# Altium footprint library Discrete Semiconductors Pad Lib.PcbLib: 56 footprints (part 2 of 4)
Each footprint in its own frame and in the unit in brackets; x right, y up, seen from the top. Pads: shape width x height; smd on the part's side, far side on the other; paste and mask are expansions set on the pad; w line width, h text height; cw(c..) or ccw(c..) is an arc to the next point about the centre after c.
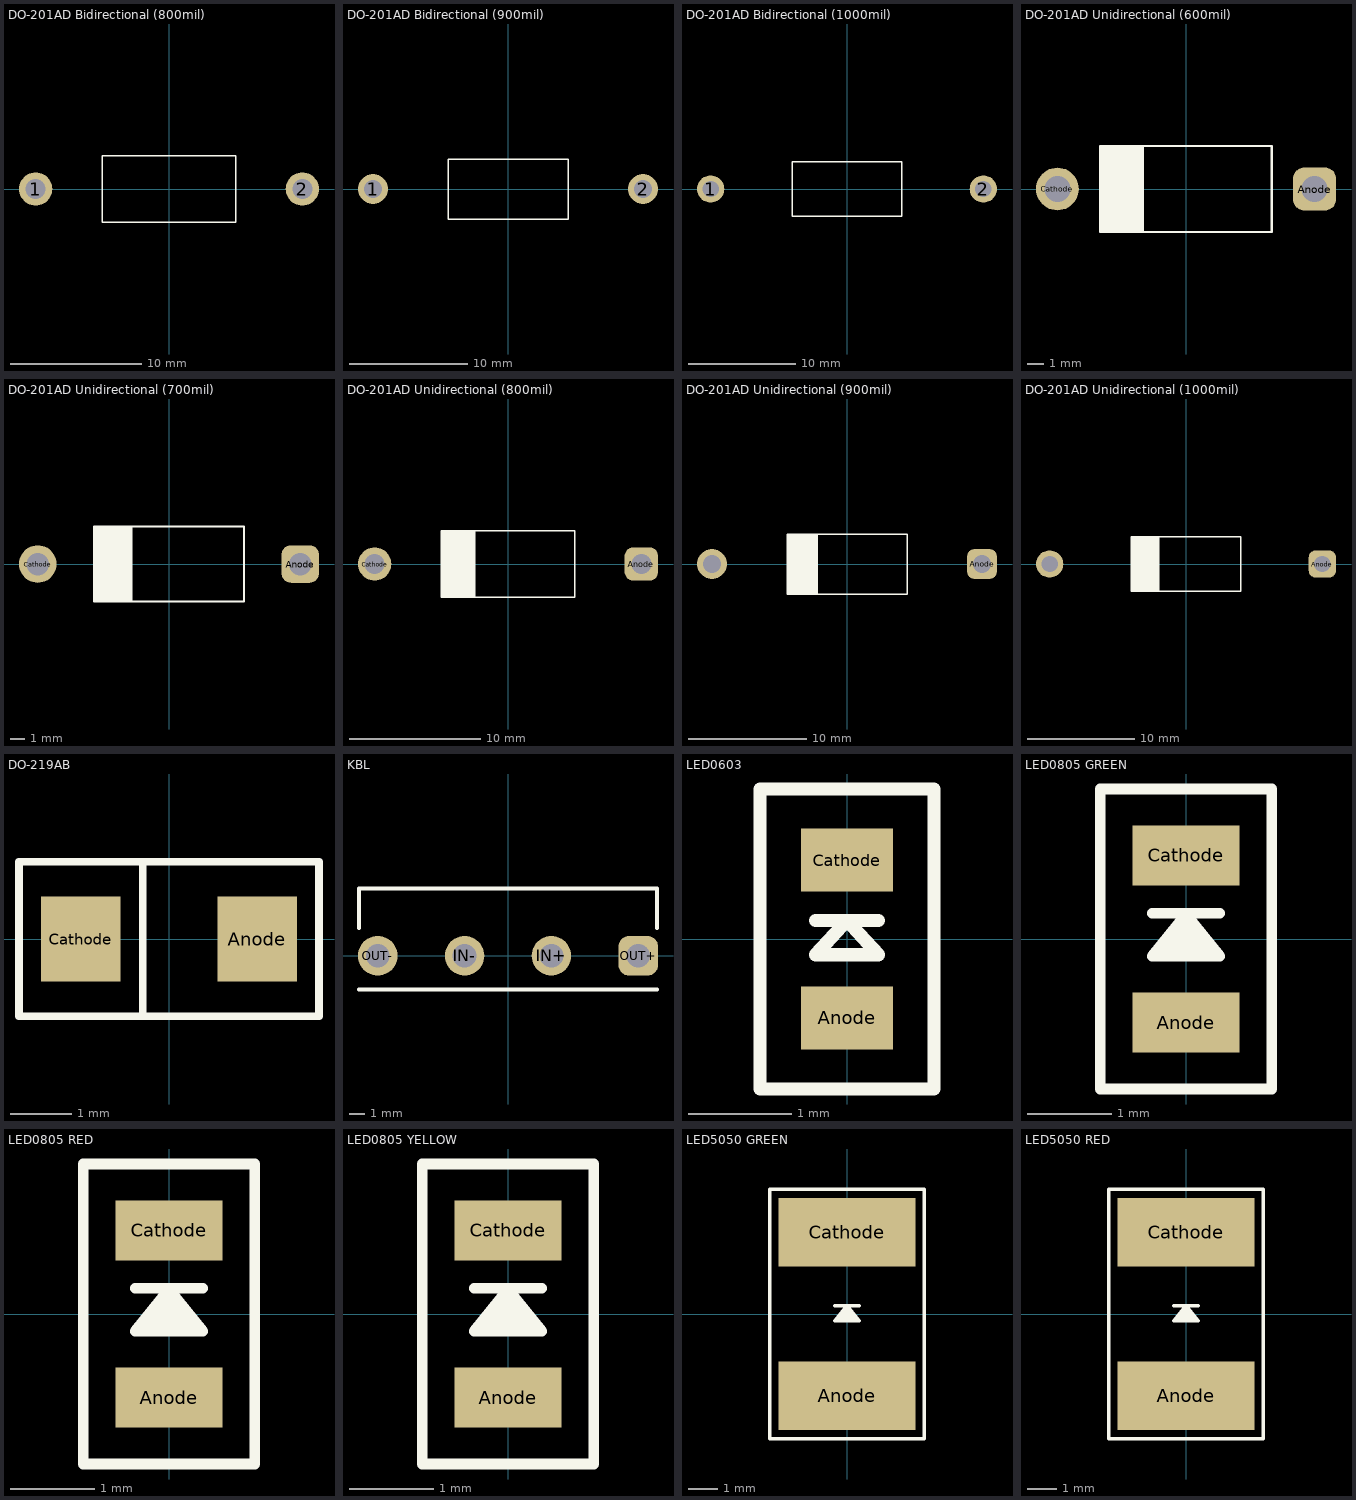
[diagram p1: the footprints below, top view; thin cyan lines are the x and y axes]

## DO-201AD Bidirectional (800mil) [mil] "Diode DO-201"
pads (2):
  round 100 hole 60: 1(-400,0) 2(400,0)
Top Overlay:
  lines w5: -200,-100 200,-100 200,100 -200,100 -200,-100
3D body: height 94.49, standoff 1.29, extent 0,0 0,0
3D body "DO-201 BiDirection 800mil.STEP": height 198.43, standoff -100.79, extent -419.68,-98.42 419.69,98.43

## DO-201AD Bidirectional (900mil) [mil] "Diode DO-201"
pads (2):
  round 100 hole 60: 1(-450,0) 2(450,0)
Top Overlay:
  lines w5: -200,-100 200,-100 200,100 -200,100 -200,-100
3D body: height 94.49, standoff 1.29, extent 0,0 0,0
3D body "DO-201 BiDirection 900mil.STEP": height 198.43, standoff -100.79, extent -469.68,-98.42 469.69,98.43

## DO-201AD Bidirectional (1000mil) [mil] "Diode DO-201"
pads (2):
  round 100 hole 60: 1(-500,0) 2(500,0)
Top Overlay:
  lines w5: -200,-100 200,-100 200,100 -200,100 -200,-100
3D body: height 94.49, standoff 1.29, extent 0,0 0,0
3D body "DO-201 BiDirection 1000mil.STEP": height 198.43, standoff -100.79, extent -519.68,-98.42 519.69,98.43

## DO-201AD Unidirectional (600mil) [mil] "Diode DO-201AD"
pads (2):
  rrect50% 100x100 hole 60: Anode(300,0)
  round 100 hole 60: Cathode(-300,0)
Top Overlay:
  rectangle: -200,-100 -100,100
  lines w5: -100,-100 -100,100 ; -200,-100 200,-100 200,100 -200,100 -200,-100
3D body: height 94.49, standoff 1.29, extent 0,0 0,0
3D body "DO-201AD (600mil).STEP": height 198.43, standoff -100.79, extent -319.68,-98.42 319.69,98.43

## DO-201AD Unidirectional (700mil) [mil] "Diode DO-201AD"
pads (2):
  rrect50% 100x100 hole 60: Anode(350,0)
  round 100 hole 60: Cathode(-350,0)
Top Overlay:
  rectangle: -200,-100 -100,100
  lines w5: -100,-100 -100,100 ; -200,-100 200,-100 200,100 -200,100 -200,-100
3D body: height 94.49, standoff 1.29, extent 0,0 0,0
3D body "DO-201AD (700mil).STEP": height 198.43, standoff -100.79, extent -369.68,-98.42 369.69,98.43

## DO-201AD Unidirectional (800mil) [mil] "Diode DO-201AD"
pads (2):
  rrect50% 100x100 hole 60: Anode(400,0)
  round 100 hole 60: Cathode(-400,0)
Top Overlay:
  rectangle: -200,-100 -100,100
  lines w5: -100,-100 -100,100 ; -200,-100 -200,100 200,100 200,-100 -200,-100
3D body: height 94.49, standoff 1.29, extent 0,0 0,0
3D body "DO-201AD (800mil).STEP": height 198.43, standoff -100.79, extent -419.68,-98.42 419.69,98.43

## DO-201AD Unidirectional (900mil) [mil] "Diode DO-201AD"
pads (2):
  rrect50% 100x100 hole 60: Anode(450,0)
  round 100 hole 60: Cathode(-450,0)
Top Overlay:
  rectangle: -200,-100 -100,100
  lines w5: -100,-100 -100,100 ; -200,-100 200,-100 200,100 -200,100 -200,-100
3D body: height 94.49, standoff 1.29, extent 0,0 0,0
3D body "DO-201AD (900mil).STEP": height 198.43, standoff -100.79, extent -469.68,-98.42 469.69,98.43

## DO-201AD Unidirectional (1000mil) [mil] "Diode DO-201AD"
pads (2):
  rrect50% 100x100 hole 60: Anode(500,0)
  round 100 hole 60: Cathode(-500,0)
Top Overlay:
  rectangle: -200,-100 -100,100
  lines w5: -100,-100 -100,100 ; -200,-100 -200,100 200,100 200,-100 -200,-100
3D body: height 94.49, standoff 1.29, extent 0,0 0,0
3D body "DO-201AD (1000mil).STEP": height 198.43, standoff -100.79, extent -519.68,-98.42 519.69,98.43

## DO-219AB [mm]
pads (2):
  rect 1.3x1.4 smd: Anode(1.45,0) Cathode(-1.45,0)
Top Overlay:
  lines w0.127: -0.432,-1.27 -0.432,1.27 ; -2.464,-1.27 2.464,-1.27 2.464,1.27 -2.464,1.27 -2.464,-1.27
3D body "DO-219AB.step": height 1.25, standoff 0, extent -1.95,-0.95 1.95,0.95
3D body: height 4.34, standoff -0.56, extent 1.219,0 1.219,0
3D body: height 4.34, standoff -0.56, extent 1.219,0 1.219,0

## KBL [mil] "Diodes Bridge KBL - case"
pads (4):
  round 100 hole 60: IN+(110,0) IN-(-110,0) OUT-(-330,0)
  rrect50% 100x100 hole 60: OUT+(330,0)
Top Overlay:
  lines w10: -378,-85 378,-85 ; -378,70 -378,170 378,170 378,70
3D body: height 94.49, standoff 1.29, extent 0,0 0,0

## LED0603 [mil] "0603 Reflow Pad"
pads (2):
  rect 35x24 smd: Anode(0,-30) Cathode(0,30)
Top Overlay:
  lines w5: -12,7 12,7 ; -33,-57 33,-57 33,57 -33,57 -33,-57 ; -12,-6 0,7 12,-6 -12,-6

## LED0805 GREEN [mil] "0805 LED Green Color"
pads (2):
  rect 50x28 smd: Anode(0,-39) Cathode(0,39)
Top Overlay:
  region: -15.75,-8 15.75,-8 0,11.69
  lines w5: -15.75,12 15.75,12 ; -40,-70 40,-70 40,70 -40,70 -40,-70 ; -15.75,-8 0,11.69 15.75,-8 -15.75,-8
3D body "KP-2012SGC.STEP": height 43.31, standoff -0.04, extent -24.61,-39.41 24.6,39.41

## LED0805 RED [mil] "0805 LED Red Color"
pads (2):
  rect 50x28 smd: Anode(0,-39) Cathode(0,39)
Top Overlay:
  region: -15.75,-8 15.75,-8 0,11.69
  lines w5: -15.75,12 15.75,12 ; -40,-70 -40,70 40,70 40,-70 -40,-70 ; -15.75,-8 15.75,-8 0,11.69 -15.75,-8
3D body "KP-2012SURCK.STEP": height 43.31, standoff -0.04, extent -24.61,-39.41 24.6,39.41

## LED0805 YELLOW [mil] "0805 LED Yellow Color"
pads (2):
  rect 50x28 smd: Anode(0,-39) Cathode(0,39)
Top Overlay:
  region: -15.75,-8 15.75,-8 0,11.69
  lines w5: -15.75,12 15.75,12 ; -40,-70 -40,70 40,70 40,-70 -40,-70 ; -15.75,-8 15.75,-8 0,11.69 -15.75,-8
3D body "KP-2012SYC.STEP": height 43.31, standoff -0.04, extent -24.61,-39.41 24.6,39.41

## LED5050 GREEN [mm] "5050 LED Green Color"
pads (2):
  rect 4.6x2.3 smd: Anode(0,-2.75) Cathode(0,2.75)
Top Overlay:
  region: -0.4,-0.229 0.4,-0.229 0,0.271
  lines w0.127: -0.4,0.279 0.4,0.279 ; -2.6,-4.2 -2.6,4.2 2.6,4.2 2.6,-4.2 -2.6,-4.2 ; -0.4,-0.229 0.4,-0.229 0,0.271 -0.4,-0.229
3D body "LED SMD 5050 green.STEP": height 1.61, standoff 0.01, extent -2.5,-2.67 2.5,2.63

## LED5050 RED [mm] "5050 LED Red Color"
pads (2):
  rect 4.6x2.3 smd: Anode(0,-2.75) Cathode(0,2.75)
Top Overlay:
  region: -0.4,-0.229 0.4,-0.229 0,0.271
  lines w0.127: -0.4,0.279 0.4,0.279 ; -2.6,-4.2 2.6,-4.2 2.6,4.2 -2.6,4.2 -2.6,-4.2 ; -0.4,-0.229 0,0.271 0.4,-0.229 -0.4,-0.229
3D body "LED SMD 5050 red.STEP": height 1.61, standoff 0.01, extent -2.5,-2.67 2.5,2.63